# EAGLE library part TLC5940-NT (library CH_TI)
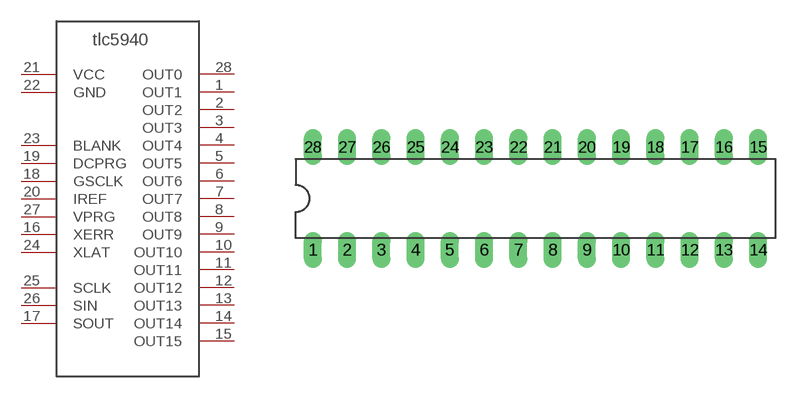
[diagram p2: symbol with the pads of 28-DIL-300; footprint 28-DIL-300]

Designator prefix -

## TLC5940-NT  [28-DIL-300]
1  OUT1
2  OUT2
3  OUT3
4  OUT4
5  OUT5
6  OUT6
7  OUT7
8  OUT8
9  OUT9
10  OUT10
11  OUT11
12  OUT12
13  OUT13
14  OUT14
15  OUT15
16  XERR
17  SOUT
18  GSCLK
19  DCPRG
20  IREF
21  VCC
22  GND
23  BLANK
24  XLAT
25  SCLK
26  SIN
27  VPRG
28  OUT0

## Footprint 28-DIL-300 (pad centres in mm)
drill 0.813 long: 1 -15.24,-3.81; 2 -12.7,-3.81; 3 -10.16,-3.81; 4 -7.62,-3.81; 5 -5.08,-3.81; 6 -2.54,-3.81; 7 0,-3.81; 8 2.54,-3.81; 9 5.08,-3.81; 10 7.62,-3.81; 11 10.16,-3.81; 12 12.7,-3.81; 13 15.24,-3.81; 14 17.78,-3.81; 15 17.78,3.81; 16 15.24,3.81; 17 12.7,3.81; 18 10.16,3.81; 19 7.62,3.81; 20 5.08,3.81; 21 2.54,3.81; 22 0,3.81; 23 -2.54,3.81; 24 -5.08,3.81; 25 -7.62,3.81; 26 -10.16,3.81; 27 -12.7,3.81; 28 -15.24,3.81